# Altium schematic symbol library TPS7A3301RGWR.SchLib: 1 symbol
Pins are listed as number, name and electrical type; pins without a type are passive.

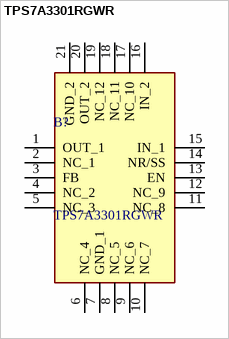
[diagram p0: symbol TPS7A3301RGWR]

## TPS7A3301RGWR
designator B?
-3V to -36V Vin, 1A output current, ultra-low-noise, high-PSRR, low-dropout (LDO) linear regulator; Manufacturer_Name: Texas Instruments; Geometry.Height: 1mm; Manufacturer_Part_Number: TPS7A3301RGWR; Mouser Part Number: 595-TPS7A3301RGWR; Mouser Price/Stock: https://www.mouser.co.uk/ProductDetail/Texas-Instruments/TPS7A3301RGWR?qs=i8JZjLRTtkLEU7%252B8PZb5ZA%3D%3D; Arrow Part Number: TPS7A3301RGWR; Arrow Price/Stock: https://www.arrow.com/en/products/tps7a3301rgwr/texas-instruments?region=nac; Datasheet Link: http://www.ti.com/lit/ds/symlink/tps7a33.pdf
footprint QFN65P500X500X100-21N-D
pins: 1 OUT_1, 2 NC_1, 3 FB, 4 NC_2, 5 NC_3, 6 NC_4, 7 GND_1, 8 NC_5, 9 NC_6, 10 NC_7, 11 NC_8, 12 NC_9, 13 EN, 14 NR/SS, 15 IN_1, 16 IN_2, 17 NC_10, 18 NC_11, 19 NC_12, 20 OUT_2, 21 GND_2